# EAGLE library part VNH5050A-E (library Shohei)
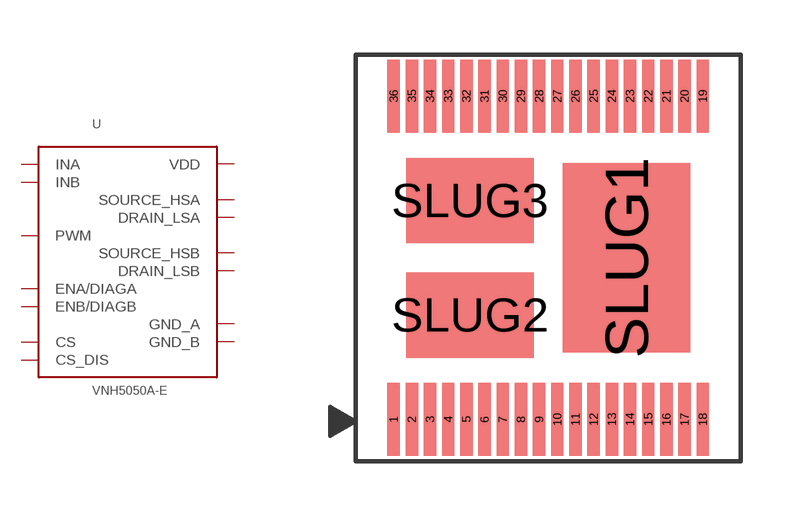
[diagram p13: symbol with the pads of POWERSSO-36TP; footprint POWERSSO-36TP]

Designator prefix -

## VNH5050A-E  [POWERSSO-36TP]
1  GND_A
2  DRAIN_LSA
3  GND_A
4  GND_A
5  GND_A
6  GND_A
7  GND_A
8  DRAIN_LSA
9  SOURCE_HSA
10  SOURCE_HSA
11  SOURCE_HSA
12  SOURCE_HSA
13  VDD
14  SOURCE_HSA
15  INA
16  ENA/DIAGA
17  PWM
19  CS
20  CS_DIS
21  ENB/DIAGB
22  INB
23  SOURCE_HSB
24  VDD
25  SOURCE_HSB
26  SOURCE_HSB
27  SOURCE_HSB
28  SOURCE_HSB
29  DRAIN_LSB
30  GND_B
31  GND_B
32  GND_B
33  GND_B
34  GND_B
35  DRAIN_LSB
36  GND_B
SLUG1  VDD
SLUG2  DRAIN_LSA
SLUG3  DRAIN_LSB

## Footprint POWERSSO-36TP (pad centres in mm)
smd 0.34 x 2: 1 -4.25,-4.45; 2 -3.75,-4.45; 3 -3.25,-4.45; 4 -2.75,-4.45; 5 -2.25,-4.45; 6 -1.75,-4.45; 7 -1.25,-4.45; 8 -0.75,-4.45; 9 -0.25,-4.45; 10 0.25,-4.45; 11 0.75,-4.45; 12 1.25,-4.45; 13 1.75,-4.45; 14 2.25,-4.45; 15 2.75,-4.45; 16 3.25,-4.45; 17 3.75,-4.45; 18 4.25,-4.45; 19 4.25,4.45; 20 3.75,4.45; 21 3.25,4.45; 22 2.75,4.45; 23 2.25,4.45; 24 1.75,4.45; 25 1.25,4.45; 26 0.75,4.45; 27 0.25,4.45; 28 -0.25,4.45; 29 -0.75,4.45; 30 -1.25,4.45; 31 -1.75,4.45; 32 -2.25,4.45; 33 -2.75,4.45; 34 -3.25,4.45; 35 -3.75,4.45; 36 -4.25,4.45
smd 3.5 x 5.2: SLUG1 2.15,0
smd 3.5 x 2.35: SLUG2 -2.15,-1.575; SLUG3 -2.15,1.575